# Altium schematic symbol library Indicators.SchLib: 2 symbols
Pins are listed as number, name and electrical type; pins without a type are passive.

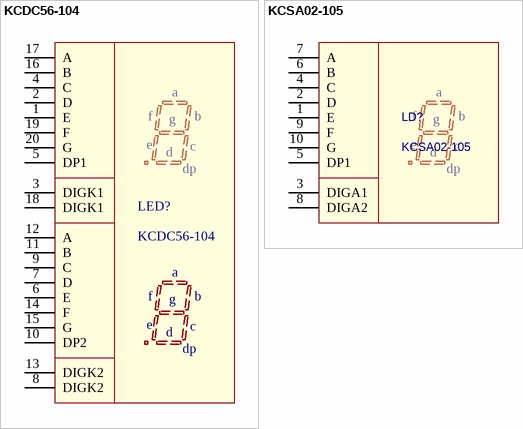
[diagram p0: symbols KCDC56-104 to KCSA02-105]

## KCDC56-104
designator LED?
Kingbright 0.56 inch 7 seg indicator Vf=1.85, If=10mA
footprint CAF-254P2510X1900-20N (Kingbright KCDC56-104) (Chip Array, Flat, 20-Leads, Pitch 2,54mm,  Body 25,10x19,00mm,  IPC Medium Density)
pins: 1 E, 2 D, 3 DIGK1, 4 C, 5 DP1, 6 E, 7 D, 8 DIGK2, 9 C, 10 DP2, 11 B, 12 A, 13 DIGK2, 14 F, 15 G, 16 B, 17 A, 18 DIGK1, 19 F, 20 G
text: a; f; g; b; e; c; d; dp

## KCSA02-105
designator LD?
0.2 inch digit height, Vf-2.5v (If-20mA),Ifp-185mA.; Manufacturer: Kingbright; Part number: KCSA02-105
footprint KINGBRIGHT KCSA02-105 (Chip Array, Flat, 10-Leads, Pitch 1,44mm,  Body 10,00x6,90mm,  IPC Medium Density)
pins: 1 E, 2 D, 3 DIGA1, 4 C, 5 DP1, 6 B, 7 A, 8 DIGA2, 9 F, 10 G
text: a; f; g; b; e; c; d; dp